# Altium schematic symbol library Schlib.SchLib: 17 symbols
Pins are listed as number, name and electrical type; pins without a type are passive.

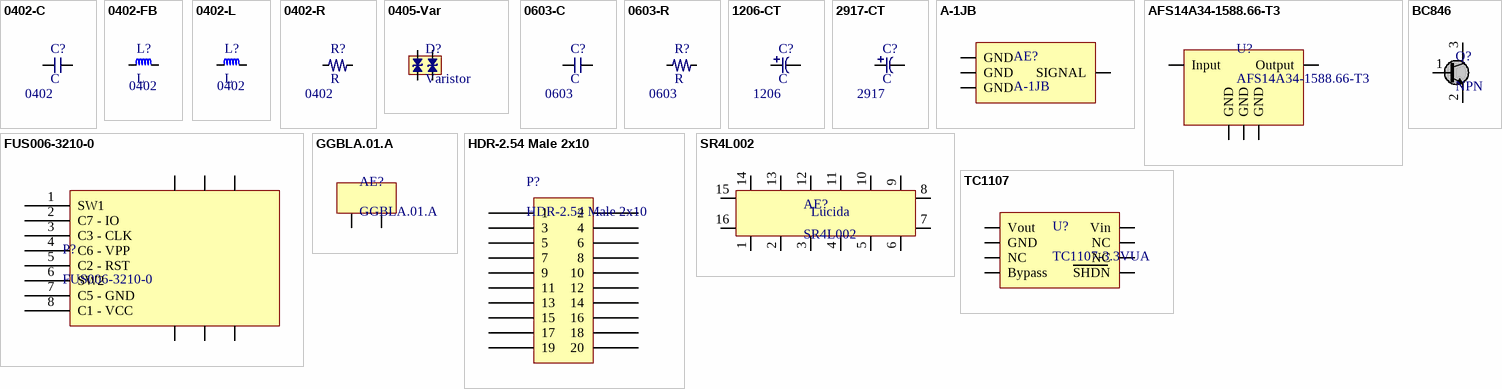
[diagram p0: symbols 0402-C to TC1107]

## 0402-C
designator C?, comment C
footprint Chip 0402C
pins: 1, 2
text: 0402

## 0402-FB
designator L?, comment L
footprint Chip 0402FB
pins: 1, 2
text: 0402

## 0402-L
designator L?, comment L
footprint Chip 0402L
pins: 1, 2
text: 0402

## 0402-R
designator R?, comment R
footprint Chip 0402R
pins: 1, 2
text: 0402

## 0405-Var
designator D?, comment Varistor
footprint Chip 0405V
pins: 1, 2, 3, 4

## 0603-C
designator C?, comment C
footprint Chip 0603C
pins: 1, 2
text: 0603

## 0603-R
designator R?, comment R
footprint Chip 0603R
pins: 1, 2
text: 0603

## 1206-CT
designator C?, comment C
footprint Chip 1206CT
pins: 1, 2
text: 1206

## 2917-CT
designator C?, comment C
footprint Chip 2917CT
pins: 1, 2
text: 2917

## A-1JB
designator AE?
RF Connectors / Coaxial Connectors AMC PCB JACK S/M T&R U.FL Compatible; Manufacturer: Amphenol RF; Part number: A-1JB; mouser: http://www.mouser.com/ProductDetail/Amphenol-RF/A-1JB/?qs=sGAEpiMZZMukCeVMgJHkjEwIT%2FiYHidmZlByIJdLvhE%3D
footprint A-1JB (U.FL)
pins: 1 SIGNAL (oc), 2 GND (oc), 3 GND (oc), 4 GND (oc)

## AFS14A34-1588.66-T3
designator U?
Signal Conditioning 1588.665MHz BW=34MHz 5-Pad; Manufacturer: ABRACON; Part number: AFS14A34-1588.66-T3; mouser: http://th.mouser.com/ProductDetail/ABRACON/AFS14A34-158866-T3/?qs=sGAEpiMZZMtMMXztyU6kdGlnuWOFzO%2fb3jyL5Zrinfc%3d
footprint AFS14A34-1588.66-T3
pins: 1 Output, 2 GND, 3 Input, 4 GND, 5 GND

## BC846
designator Q?, comment NPN
Bipolar Transistors
footprint SOT-23
pins: 1 B, 2 E, 3 C

## FUS006-3210-0
designator P?
Memory Card Connectors Micro and Nano Sim Card Socket Connect; Manufacturer: Yamaichi Electronics; Part number: FUS006-3210-0; mouser: http://th.mouser.com/ProductDetail/Yamaichi-Electronics/FUS006-3210-0/?qs=%2fha2pyFadugDjEhTJ7heuCsR%252byGdDrf5NjhG3g8PA8ke0a0WXZ5q%2fS4INWhRZzye
footprint FUS006-3210-0 (Nano SIM Card Connector)
pins: 1 SW1, 2 C7 - IO, 3 C3 - CLK, 4 C6 - VPP, 5 C2 - RST, 6 SW2, 7 C5 - GND, 8 C1 - VCC, 9, 10, 11, 12, 13, 14

## GGBLA.01.A
designator AE?
Unifier GPS/GLONASS/BEIDOU Ceramic SMD Antenna; Manufacturer: Taoglas; Part number: GGBLA.01.A; mouser: http://th.mouser.com/ProductDetail/Taoglas/GGBLA01A/?qs=sGAEpiMZZMuBTKBKvsBmlDiJtE06KS1dXm29HS9gARHXdgR%252byUBKdg%3D%3D
footprint GGBLA.01.A
pins: 1, 2

## HDR-2.54 Male 2x10
designator P?
DUAL ROW STRAIGHT TYPE 2*10 PINS
footprint HDR-2.54 Male 2x10
pins: 1, 2, 3, 4, 5, 6, 7, 8, 9, 10, 11, 12, 13, 14, 15, 16, 17, 18, 19, 20

## SR4L002
designator AE?
Lucida Antenna for LTE applications; Manufacturer: Antenova; Part number: SR4L002; mouser: http://th.mouser.com/ProductDetail/Antenova/SR4L002/?qs=sGAEpiMZZMuBTKBKvsBmlF9qvBcDYkuE8AjNzavWIaxNgQdOVst0yw%3D%3D
footprint SR4L002 (Antennas LTE 700-LTE 2400MHz Max RL -6dB)
pins: 1, 2, 3, 4, 5, 6, 7, 8, 9, 10, 11, 12, 13, 14, 15, 16
text: Lucida

## TC1107
designator U?, comment TC1107-3.3VUA
LDO Voltage Regulators 300mA LDO w/Shdn; Manufacturer: Microchip Technology; Part number: TC1107-3.3VUA; mouser: http://th.mouser.com/ProductDetail/Microchip-Technology/TC1107-33VUA/?qs=sGAEpiMZZMug9GoBKXZ756PgbqWOUSEI7JfQk3Y3EpE%3D
footprint 8-LEAD MSOP
pins: 1 Vout, 2 GND, 3 NC, 4 Bypass, 5 SHDN, 6 NC, 7 NC, 8 Vin